# EAGLE library part SIDE_PORT_TI99_EDGE (library ti994a)
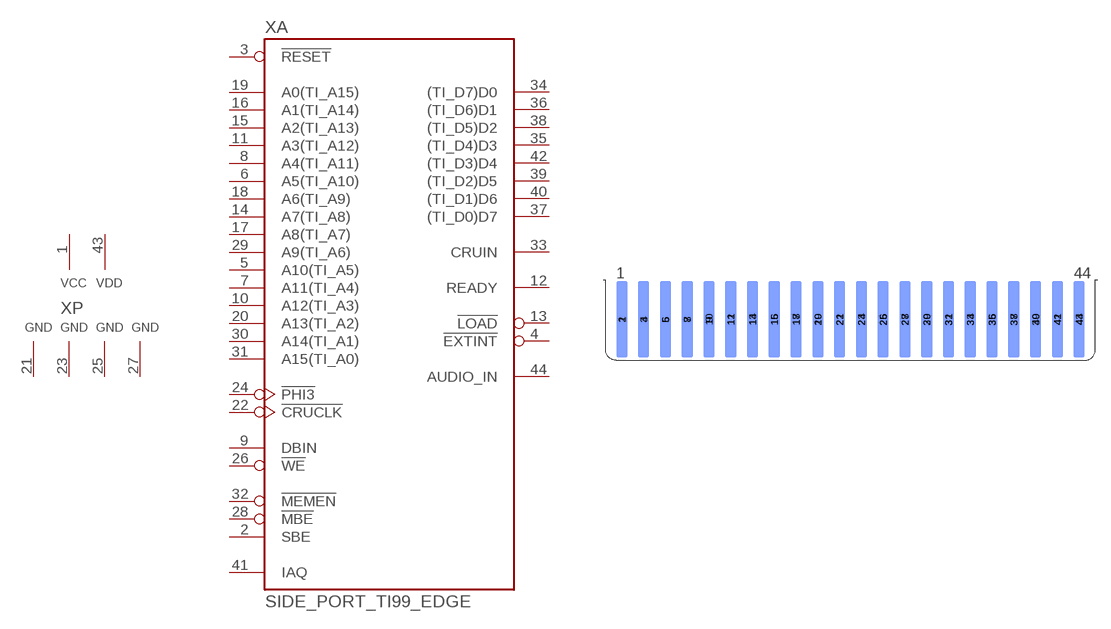
[diagram p2: symbol with the pads of MA100_22-2; footprint MA100_22-2]

Designator prefix X; gates A=TI994/A_SIDE_EDGE P=PWR_VCC_VDD_4GND

## SIDE_PORT_TI99_EDGE  [MA100_22-2]
1  P:VCC  pwr
2  A:SBE  in
3  A:!RESET  pas
4  A:!EXTINT  hiz
5  A:A10(TI_A5)  in
6  A:A5(TI_A10)  in
7  A:A11(TI_A4)  in
8  A:A4(TI_A11)  in
9  A:DBIN  in
10  A:A12(TI_A3)  in
11  A:A3(TI_A12)  in
12  A:READY  out
13  A:!LOAD  hiz
14  A:A7(TI_A8)  in
15  A:A2(TI_A13)  in
16  A:A1(TI_A14)  in
17  A:A8(TI_A7)  in
18  A:A6(TI_A9)  in
19  A:A0(TI_A15)  in
20  A:A13(TI_A2)  in
21  P:GND  pwr
22  A:!CRUCLK  in
23  P:GND  pwr
24  A:!PHI3  in
25  P:GND  pwr
26  A:!WE  in
27  P:GND  pwr
28  A:!MBE  in
29  A:A9(TI_A6)  in
30  A:A14(TI_A1)  in
31  A:A15(TI_A0)  in
32  A:!MEMEN  in
33  A:CRUIN  out
34  A:(TI_D7)D0
35  A:(TI_D4)D3
36  A:(TI_D6)D1
37  A:(TI_D0)D7
38  A:(TI_D5)D2
39  A:(TI_D2)D5
40  A:(TI_D1)D6
41  A:IAQ  in
42  A:(TI_D3)D4
43  P:VDD  pwr
44  A:AUDIO_IN  pas

## Footprint MA100_22-2 (pad centres in mm)
smd 1.27 x 8.89 bottom: 1 -26.67,-0.305; 3 -24.13,-0.305; 5 -21.59,-0.305; 7 -19.05,-0.305; 9 -16.51,-0.305; 11 -13.97,-0.305; 13 -11.43,-0.305; 15 -8.89,-0.305; 17 -6.35,-0.305; 19 -3.81,-0.305; 21 -1.27,-0.305; 23 1.27,-0.305; 25 3.81,-0.305; 27 6.35,-0.305; 29 8.89,-0.305; 31 11.43,-0.305; 33 13.97,-0.305; 35 16.51,-0.305; 37 19.05,-0.305; 39 21.59,-0.305; 41 24.13,-0.305; 43 26.67,-0.305
smd 1.27 x 8.89: 2 -26.67,-0.305; 4 -24.13,-0.305; 6 -21.59,-0.305; 8 -19.05,-0.305; 10 -16.51,-0.305; 12 -13.97,-0.305; 14 -11.43,-0.305; 16 -8.89,-0.305; 18 -6.35,-0.305; 20 -3.81,-0.305; 22 -1.27,-0.305; 24 1.27,-0.305; 26 3.81,-0.305; 28 6.35,-0.305; 30 8.89,-0.305; 32 11.43,-0.305; 34 13.97,-0.305; 36 16.51,-0.305; 38 19.05,-0.305; 40 21.59,-0.305; 42 24.13,-0.305; 44 26.67,-0.305